# Altium schematic symbol library Schlib1.SchLib: 1 symbol
Pins are listed as number, name and electrical type; pins without a type are passive.

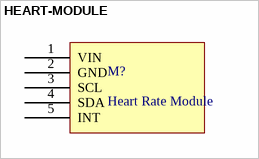
[diagram p0: symbol HEART-MODULE]

## HEART-MODULE
designator M?, comment Heart Rate Module
High-Sensitivity Pulse Oximeter , temperature and Heart-Rate ( ECG ) Biosensor for Fitness & Healthcare
footprint HEART-MODULE (High-Sensitivity Pulse Oximeter , temperature and Heart-Rate ( ECG ) Biosensor for Fitness & Healthcare)
pins: 1 VIN, 2 GND, 3 SCL, 4 SDA, 5 INT